# Altium integrated library BaseCurrentMonitor.IntLib: 4 symbols
Pins are listed as number, name and electrical type; pins without a type are passive.

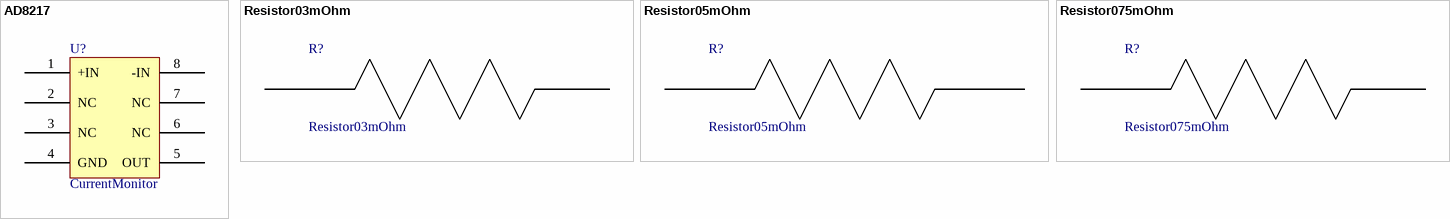
[diagram p0: symbols AD8217 to Resistor075mOhm]

## AD8217
designator U?, comment CurrentMonitor
footprint AD8217 (CurrentMonitor)
pins: 1 +IN, 2 NC, 3 NC, 4 GND, 5 OUT, 6 NC, 7 NC, 8 -IN

## Resistor03mOhm
designator R?
footprint Resistor03mOhm
pins: 1, 2

## Resistor05mOhm
designator R?
footprint Resistor05MOHM
pins: 1, 2

## Resistor075mOhm
designator R?
footprint Resistor075mohms
pins: 1, 2